# Altium schematic symbol library FFC_FPC.SchLib: 37 symbols
Pins are listed as number, name and electrical type; pins without a type are passive.

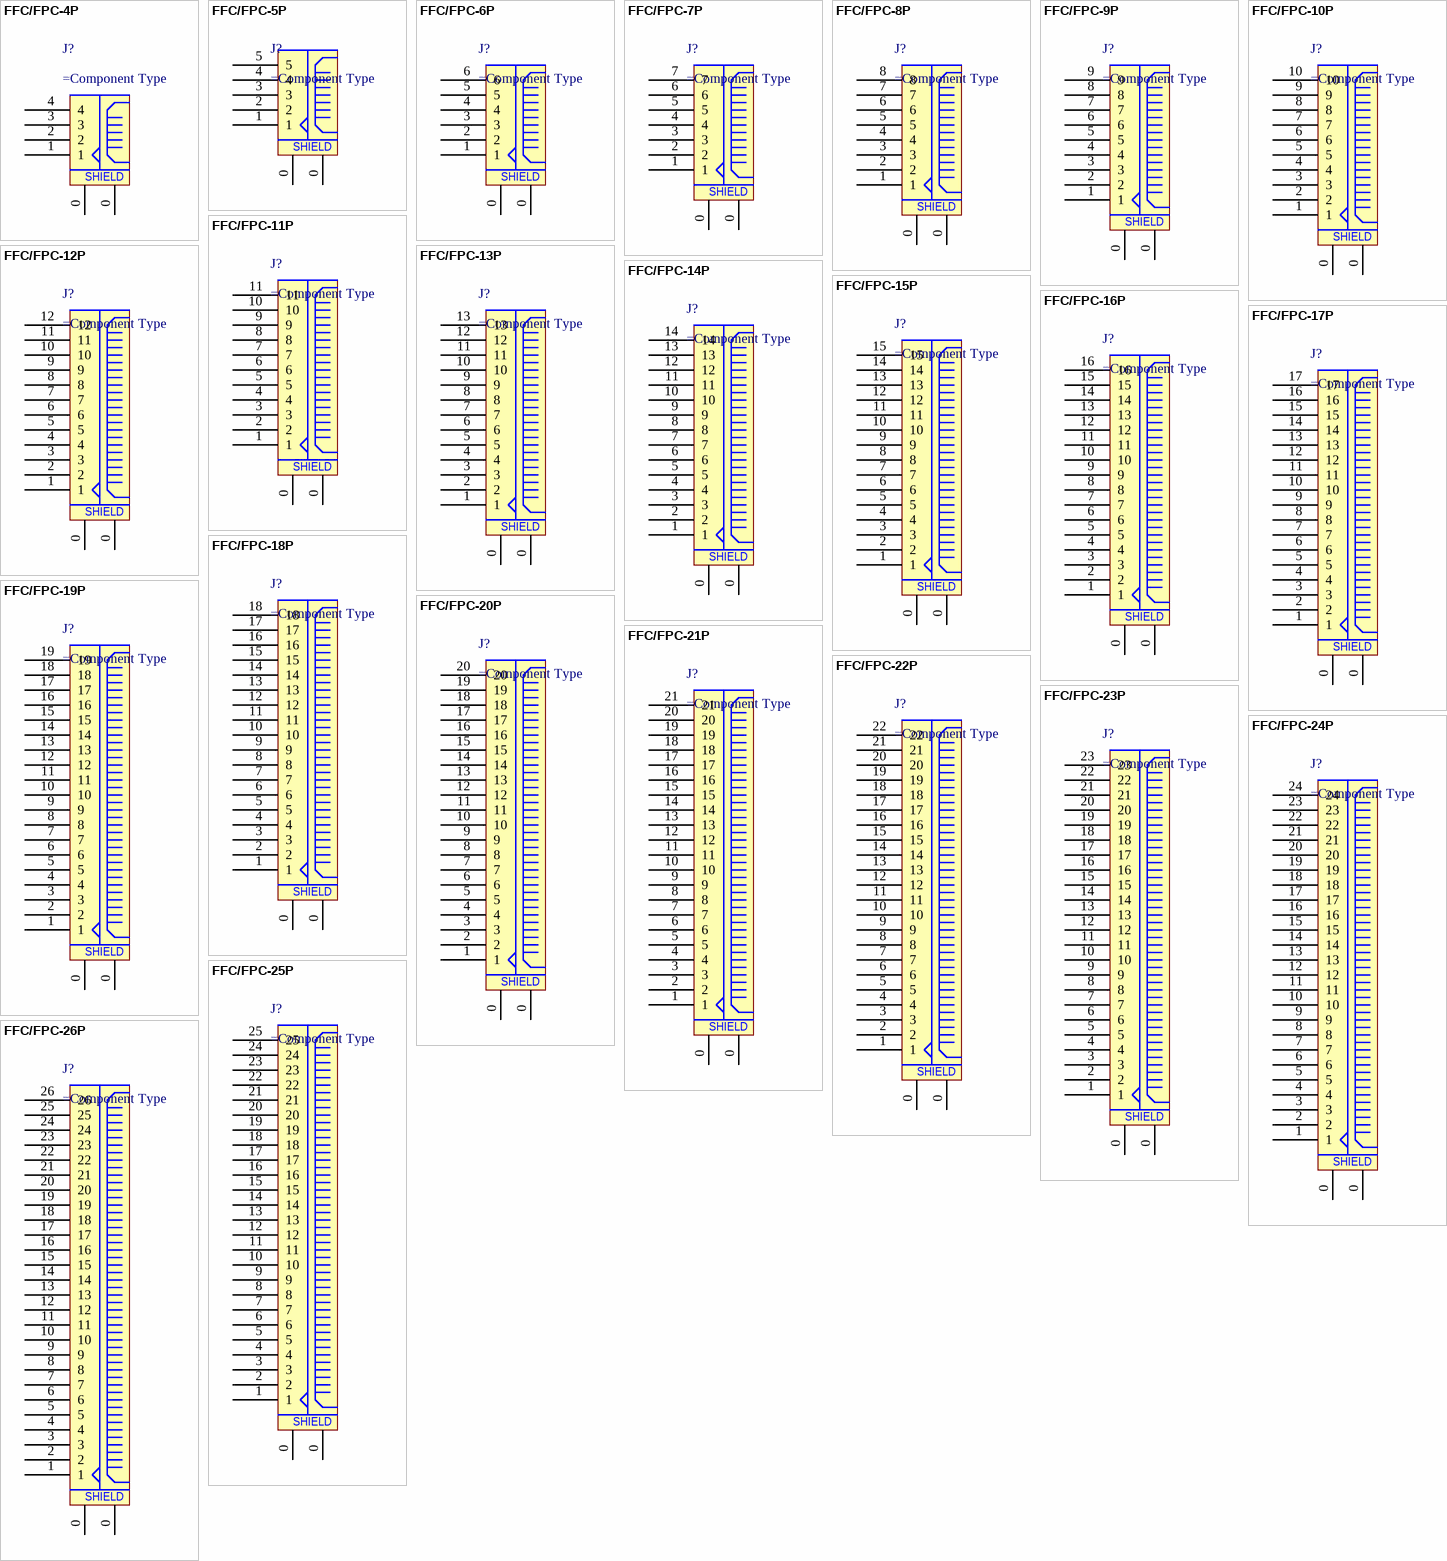
[diagram p0: symbols FFC/FPC-4P to FFC/FPC-26P]

## FFC/FPC-4P
designator J?
pins: 0, 0, 1, 2, 3, 4
text: SHIELD

## FFC/FPC-5P
designator J?
pins: 0, 0, 1, 2, 3, 4, 5
text: SHIELD

## FFC/FPC-6P
designator J?
pins: 0, 0, 1, 2, 3, 4, 5, 6
text: SHIELD

## FFC/FPC-7P
designator J?
pins: 0, 0, 1, 2, 3, 4, 5, 6, 7
text: SHIELD

## FFC/FPC-8P
designator J?
pins: 0, 0, 1, 2, 3, 4, 5, 6, 7, 8
text: SHIELD

## FFC/FPC-9P
designator J?
pins: 0, 0, 1, 2, 3, 4, 5, 6, 7, 8, 9
text: SHIELD

## FFC/FPC-10P
designator J?
pins: 0, 0, 1, 2, 3, 4, 5, 6, 7, 8, 9, 10
text: SHIELD

## FFC/FPC-11P
designator J?
pins: 0, 0, 1, 2, 3, 4, 5, 6, 7, 8, 9, 10, 11
text: SHIELD

## FFC/FPC-12P
designator J?
pins: 0, 0, 1, 2, 3, 4, 5, 6, 7, 8, 9, 10, 11, 12
text: SHIELD

## FFC/FPC-13P
designator J?
pins: 0, 0, 1, 2, 3, 4, 5, 6, 7, 8, 9, 10, 11, 12, 13
text: SHIELD

## FFC/FPC-14P
designator J?
pins: 0, 0, 1, 2, 3, 4, 5, 6, 7, 8, 9, 10, 11, 12, 13, 14
text: SHIELD

## FFC/FPC-15P
designator J?
pins: 0, 0, 1, 2, 3, 4, 5, 6, 7, 8, 9, 10, 11, 12, 13, 14, 15
text: SHIELD

## FFC/FPC-16P
designator J?
pins: 0, 0, 1, 2, 3, 4, 5, 6, 7, 8, 9, 10, 11, 12, 13, 14, 15, 16
text: SHIELD

## FFC/FPC-17P
designator J?
pins: 0, 0, 1, 2, 3, 4, 5, 6, 7, 8, 9, 10, 11, 12, 13, 14, 15, 16, 17
text: SHIELD

## FFC/FPC-18P
designator J?
pins: 0, 0, 1, 2, 3, 4, 5, 6, 7, 8, 9, 10, 11, 12, 13, 14, 15, 16, 17, 18
text: SHIELD

## FFC/FPC-19P
designator J?
pins: 0, 0, 1, 2, 3, 4, 5, 6, 7, 8, 9, 10, 11, 12, 13, 14, 15, 16, 17, 18, 19
text: SHIELD

## FFC/FPC-20P
designator J?
pins: 0, 0, 1, 2, 3, 4, 5, 6, 7, 8, 9, 10, 11, 12, 13, 14, 15, 16, 17, 18, 19, 20
text: SHIELD

## FFC/FPC-21P
designator J?
pins: 0, 0, 1, 2, 3, 4, 5, 6, 7, 8, 9, 10, 11, 12, 13, 14, 15, 16, 17, 18, 19, 20, 21
text: SHIELD

## FFC/FPC-22P
designator J?
pins: 0, 0, 1, 2, 3, 4, 5, 6, 7, 8, 9, 10, 11, 12, 13, 14, 15, 16, 17, 18, 19, 20, 21, 22
text: SHIELD

## FFC/FPC-23P
designator J?
pins: 0, 0, 1, 2, 3, 4, 5, 6, 7, 8, 9, 10, 11, 12, 13, 14, 15, 16, 17, 18, 19, 20, 21, 22, 23
text: SHIELD

## FFC/FPC-24P
designator J?
pins: 0, 0, 1, 2, 3, 4, 5, 6, 7, 8, 9, 10, 11, 12, 13, 14, 15, 16, 17, 18, 19, 20, 21, 22, 23, 24
text: SHIELD

## FFC/FPC-25P
designator J?
pins: 0, 0, 1, 2, 3, 4, 5, 6, 7, 8, 9, 10, 11, 12, 13, 14, 15, 16, 17, 18, 19, 20, 21, 22, 23, 24, 25
text: SHIELD

## FFC/FPC-26P
designator J?
pins: 0, 0, 1, 2, 3, 4, 5, 6, 7, 8, 9, 10, 11, 12, 13, 14, 15, 16, 17, 18, 19, 20, 21, 22, 23, 24, 25, 26
text: SHIELD

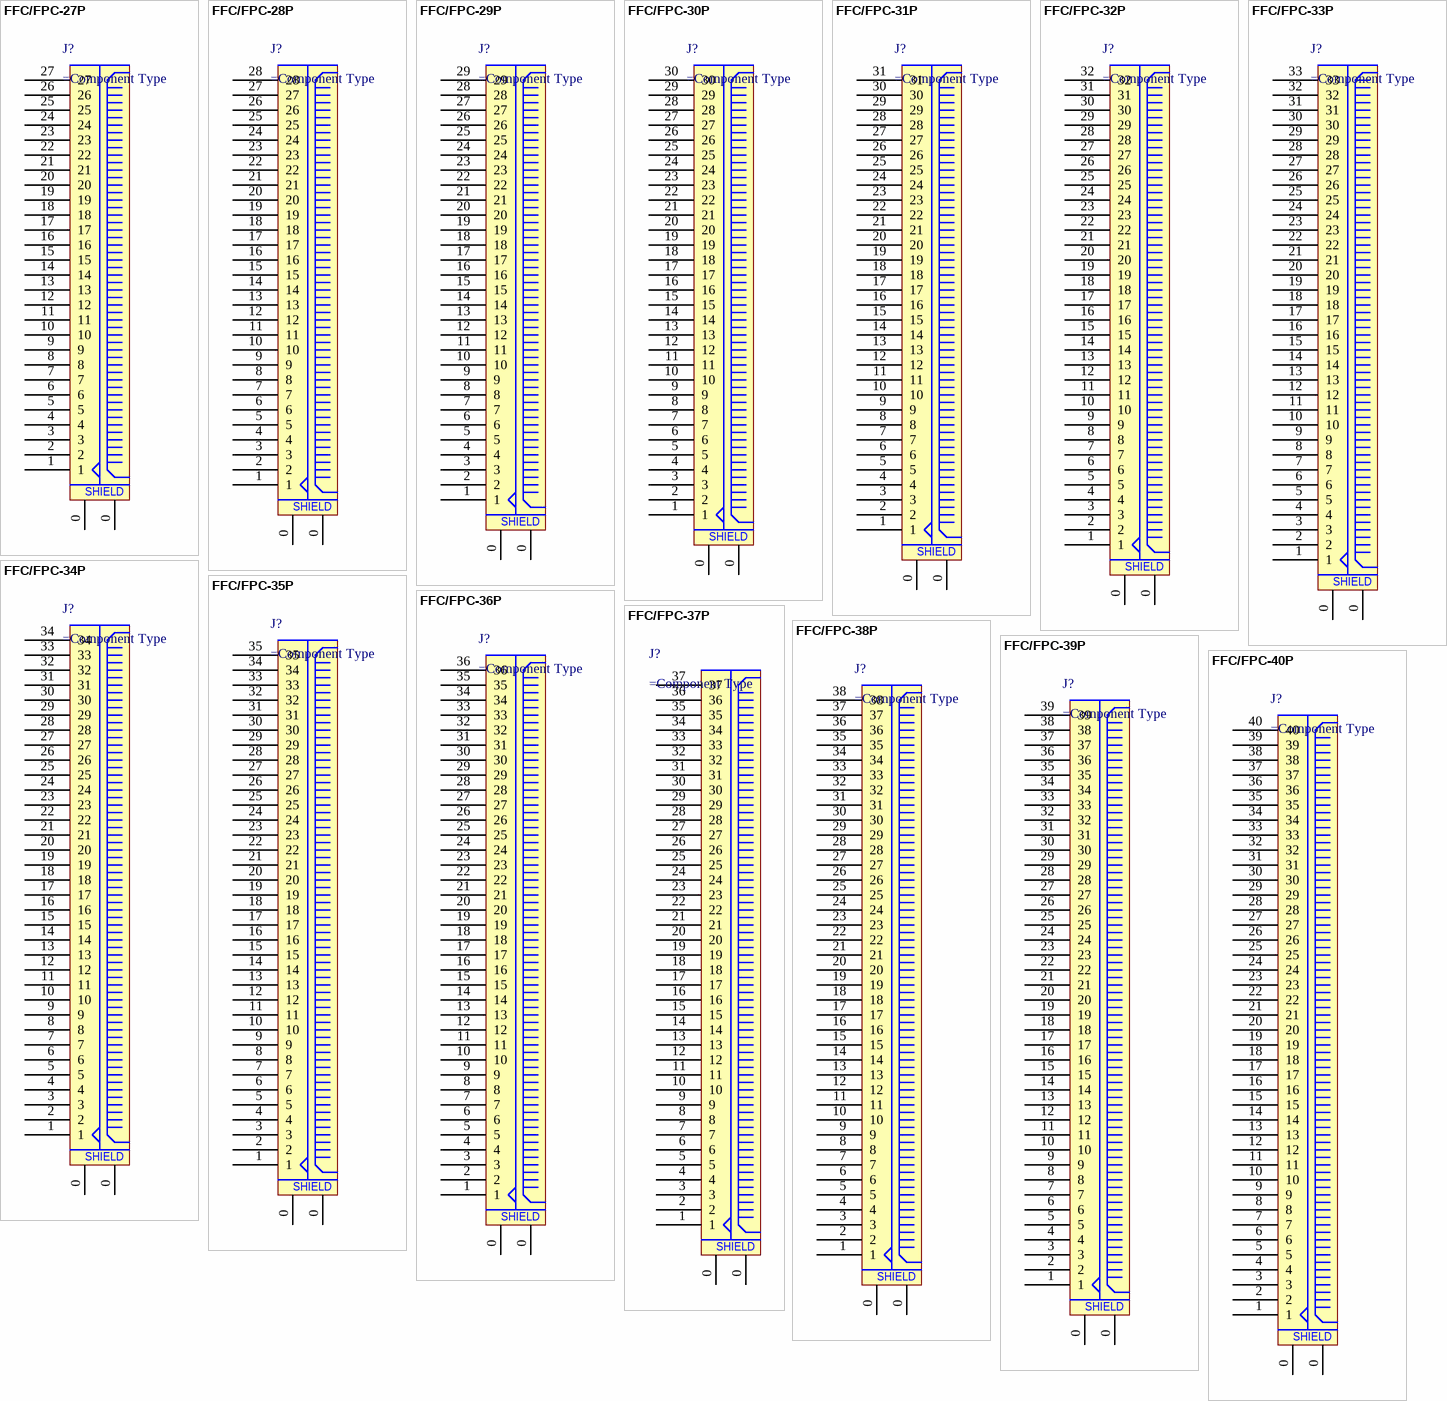
[diagram p1: symbols FFC/FPC-27P to FFC/FPC-40P]

## FFC/FPC-27P
designator J?
pins: 0, 0, 1, 2, 3, 4, 5, 6, 7, 8, 9, 10, 11, 12, 13, 14, 15, 16, 17, 18, 19, 20, 21, 22, 23, 24, 25, 26, 27
text: SHIELD

## FFC/FPC-28P
designator J?
pins: 0, 0, 1, 2, 3, 4, 5, 6, 7, 8, 9, 10, 11, 12, 13, 14, 15, 16, 17, 18, 19, 20, 21, 22, 23, 24, 25, 26, 27, 28
text: SHIELD

## FFC/FPC-29P
designator J?
pins: 0, 0, 1, 2, 3, 4, 5, 6, 7, 8, 9, 10, 11, 12, 13, 14, 15, 16, 17, 18, 19, 20, 21, 22, 23, 24, 25, 26, 27, 28, 29
text: SHIELD

## FFC/FPC-30P
designator J?
pins: 0, 0, 1, 2, 3, 4, 5, 6, 7, 8, 9, 10, 11, 12, 13, 14, 15, 16, 17, 18, 19, 20, 21, 22, 23, 24, 25, 26, 27, 28, 29, 30
text: SHIELD

## FFC/FPC-31P
designator J?
pins: 0, 0, 1, 2, 3, 4, 5, 6, 7, 8, 9, 10, 11, 12, 13, 14, 15, 16, 17, 18, 19, 20, 21, 22, 23, 24, 25, 26, 27, 28, 29, 30, 31
text: SHIELD

## FFC/FPC-32P
designator J?
pins: 0, 0, 1, 2, 3, 4, 5, 6, 7, 8, 9, 10, 11, 12, 13, 14, 15, 16, 17, 18, 19, 20, 21, 22, 23, 24, 25, 26, 27, 28, 29, 30, 31, 32
text: SHIELD

## FFC/FPC-33P
designator J?
pins: 0, 0, 1, 2, 3, 4, 5, 6, 7, 8, 9, 10, 11, 12, 13, 14, 15, 16, 17, 18, 19, 20, 21, 22, 23, 24, 25, 26, 27, 28, 29, 30, 31, 32, 33
text: SHIELD

## FFC/FPC-34P
designator J?
pins: 0, 0, 1, 2, 3, 4, 5, 6, 7, 8, 9, 10, 11, 12, 13, 14, 15, 16, 17, 18, 19, 20, 21, 22, 23, 24, 25, 26, 27, 28, 29, 30, 31, 32, 33, 34
text: SHIELD

## FFC/FPC-35P
designator J?
pins: 0, 0, 1, 2, 3, 4, 5, 6, 7, 8, 9, 10, 11, 12, 13, 14, 15, 16, 17, 18, 19, 20, 21, 22, 23, 24, 25, 26, 27, 28, 29, 30, 31, 32, 33, 34, 35
text: SHIELD

## FFC/FPC-36P
designator J?
pins: 0, 0, 1, 2, 3, 4, 5, 6, 7, 8, 9, 10, 11, 12, 13, 14, 15, 16, 17, 18, 19, 20, 21, 22, 23, 24, 25, 26, 27, 28, 29, 30, 31, 32, 33, 34, 35, 36
text: SHIELD

## FFC/FPC-37P
designator J?
pins: 0, 0, 1, 2, 3, 4, 5, 6, 7, 8, 9, 10, 11, 12, 13, 14, 15, 16, 17, 18, 19, 20, 21, 22, 23, 24, 25, 26, 27, 28, 29, 30, 31, 32, 33, 34, 35, 36, 37
text: SHIELD

## FFC/FPC-38P
designator J?
pins: 0, 0, 1, 2, 3, 4, 5, 6, 7, 8, 9, 10, 11, 12, 13, 14, 15, 16, 17, 18, 19, 20, 21, 22, 23, 24, 25, 26, 27, 28, 29, 30, 31, 32, 33, 34, 35, 36, 37, 38
text: SHIELD

## FFC/FPC-39P
designator J?
pins: 0, 0, 1, 2, 3, 4, 5, 6, 7, 8, 9, 10, 11, 12, 13, 14, 15, 16, 17, 18, 19, 20, 21, 22, 23, 24, 25, 26, 27, 28, 29, 30, 31, 32, 33, 34, 35, 36, 37, 38, 39
text: SHIELD

## FFC/FPC-40P
designator J?
pins: 0, 0, 1, 2, 3, 4, 5, 6, 7, 8, 9, 10, 11, 12, 13, 14, 15, 16, 17, 18, 19, 20, 21, 22, 23, 24, 25, 26, 27, 28, 29, 30, 31, 32, 33, 34, 35, 36, 37, 38, 39, 40
text: SHIELD